# EAGLE library part DRV8704 (library Rev_motor_controller_3.0)
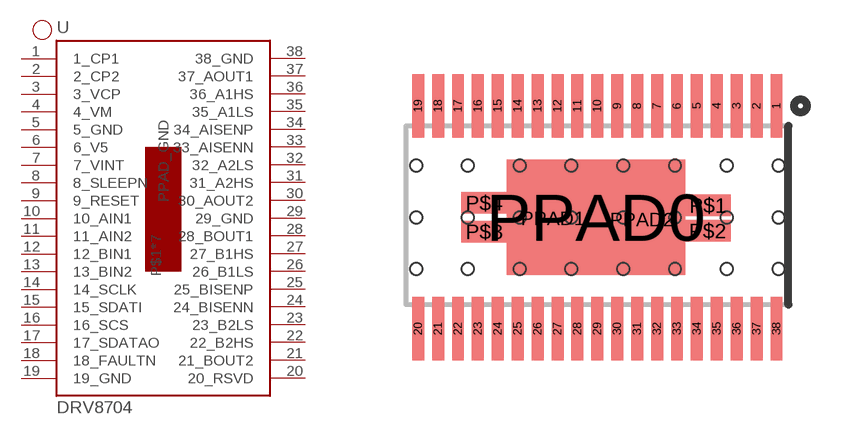
[diagram p1: symbol with the pads of HTSSOP-38; footprint HTSSOP-38]

Designator prefix -

## DRV8704  [HTSSOP-38]
1  1_CP1
2  2_CP2
3  3_VCP
4  4_VM
5  5_GND
6  6_V5
7  7_VINT
8  8_SLEEPN
9  9_RESET
10  10_AIN1
11  11_AIN2
12  12_BIN1
13  13_BIN2
14  14_SCLK
15  15_SDATI
16  16_SCS
17  17_SDATAO
18  18_FAULTN
19  19_GND
20  20_RSVD
21  21_BOUT2
22  22_B2HS
23  23_B2LS
24  24_BISENN
25  25_BISENP
26  26_B1LS
27  27_B1HS
28  28_BOUT1
29  29_GND
30  30_AOUT2
31  31_A2HS
32  32_A2LS
33  33_AISENN
34  34_AISENP
35  35_A1LS
36  36_A1HS
37  37_AOUT1
38  38_GND
P$1  PPAD_GND
P$2  PPAD_GND
P$3  PPAD_GND
P$4  PPAD_GND
PPAD0  PPAD_GND
PPAD1  PPAD_GND
PPAD2  PPAD_GND

## Footprint HTSSOP-38 (pad centres in mm)
smd 0.3 x 1.6: 1 9.15,-0.8; 2 8.65,-0.8; 3 8.15,-0.8; 4 7.65,-0.8; 5 7.15,-0.8; 6 6.65,-0.8; 7 6.15,-0.8; 8 5.65,-0.8; 9 5.15,-0.8; 10 4.65,-0.8; 11 4.15,-0.8; 12 3.65,-0.8; 13 3.15,-0.8; 14 2.65,-0.8; 15 2.15,-0.8; 16 1.65,-0.8; 17 1.15,-0.8; 18 0.65,-0.8; 19 0.15,-0.8; 20 0.15,-6.4; 21 0.65,-6.4; 22 1.15,-6.4; 23 1.65,-6.4; 24 2.15,-6.4; 25 2.65,-6.4; 26 3.15,-6.4; 27 3.65,-6.4; 28 4.15,-6.4; 29 4.65,-6.4; 30 5.15,-6.4; 31 5.65,-6.4; 32 6.15,-6.4; 33 6.65,-6.4; 34 7.15,-6.4; 35 7.65,-6.4; 36 8.15,-6.4; 37 8.65,-6.4; 38 9.15,-6.4
smd 1.15 x 0.54: P$1 7.43,-3.3; P$2 7.42,-3.94; P$3 1.81,-3.96; P$4 1.81,-3.24
smd 4.48 x 2.9: PPAD0 4.617,-3.596
drill 0.8: PPAD1 3.532,-3.632; PPAD2 5.771,-3.661
hole 0.3 at 0.1,-2.3
hole 0.3 at 0.1,-3.6
hole 0.3 at 0.1,-4.9
hole 0.3 at 1.4,-2.3
hole 0.3 at 1.4,-3.6
hole 0.3 at 1.4,-4.9
hole 0.3 at 2.7,-2.3
hole 0.3 at 2.7,-3.6
hole 0.3 at 2.7,-4.9
hole 0.3 at 4,-2.3
hole 0.3 at 4,-3.6
hole 0.3 at 4,-4.9
hole 0.3 at 5.3,-2.3
hole 0.3 at 5.3,-3.6
hole 0.3 at 5.3,-4.9
hole 0.3 at 6.6,-2.3
hole 0.3 at 6.6,-3.6
hole 0.3 at 6.6,-4.9
hole 0.3 at 7.9,-2.3
hole 0.3 at 7.9,-3.6
hole 0.3 at 7.9,-4.9
hole 0.3 at 9.2,-2.3
hole 0.3 at 9.2,-3.6
hole 0.3 at 9.2,-4.9